# EAGLE library part RF6569 (library rf-micro-devices)
TRANSMIT/RECEIVE MODULE 3.1V TO 4.0V, 915MHz
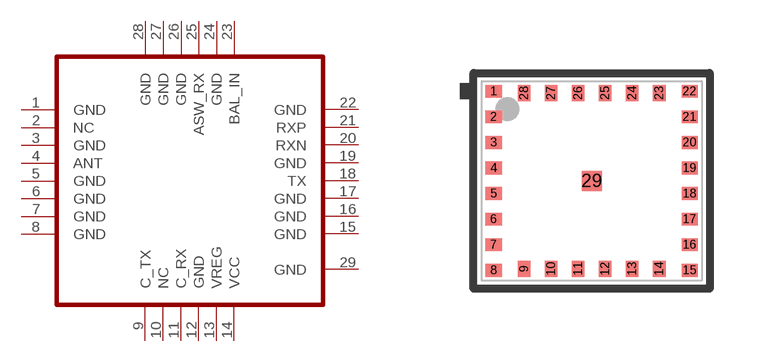
[diagram p4: symbol with the pads of LGA28; footprint LGA28]

Designator prefix U

## RF6569  [LGA28]
1  GND  pwr
2  NC  nc
3  GND  pwr
4  ANT
5  GND  pwr
6  GND  pwr
7  GND  pwr
8  GND  pwr
9  C_TX  in
10  NC
11  C_RX  in
12  GND  pwr
13  VREG  in
14  VCC  pwr
15  GND  pwr
16  GND  pwr
17  GND  pwr
18  TX  pwr
19  GND  pwr
20  RXN  pas
21  RXP  pas
22  GND  pwr
23  BAL_IN  pas
24  GND  pwr
25  ASW_RX
26  GND  pas
27  GND  pwr
28  GND  pwr
29  GND  pwr

## Footprint LGA28 (pad centres in mm)
LGA 5.5mm x 5.0mm
smd 0.4 x 0.32: 1 -2.45,2.24; 2 -2.45,1.6; 3 -2.45,0.96; 4 -2.45,0.32; 5 -2.45,-0.32; 6 -2.45,-0.96; 7 -2.45,-1.6; 8 -2.45,-2.24; 15 2.45,-2.24; 16 2.45,-1.6; 17 2.45,-0.96; 18 2.45,-0.32; 19 2.45,0.32; 20 2.45,0.96; 21 2.45,1.6; 22 2.45,2.24
smd 0.32 x 0.4: 9 -1.69,-2.2; 10 -1.014,-2.2; 11 -0.338,-2.2; 12 0.338,-2.2; 13 1.014,-2.2; 14 1.69,-2.2; 23 1.69,2.2; 24 1.014,2.2; 25 0.338,2.2; 26 -0.338,2.2; 27 -1.014,2.2; 28 -1.69,2.2
smd 0.5 x 0.5: 29 0,0